# EAGLE library part PC_LED-7-SEGMENTDISPLAY_SC52-11HWA (library Customised arduino)
Display: LED; single 7-segment; 13.2mm; red; 0.9-2.2mcd Check availability <https://pricing.snapeda.com/parts/SC52-11HWA/Kingbright/view-part?ref=eda>
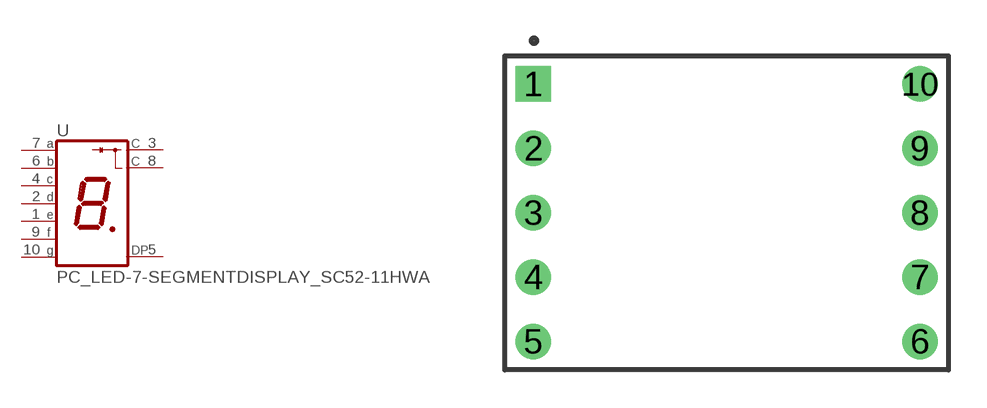
[diagram p2: symbol with the pads of PC_LED-7-SEGMENTDISPLAY_LED_SC52-11HWA; footprint PC_LED-7-SEGMENTDISPLAY_LED_SC52-11HWA]

Designator prefix U

## PC_LED-7-SEGMENTDISPLAY_SC52-11HWA (AVAILABILITY: Not in stock; DESCRIPTION: Display: LED; single 7-segment; 13.2mm; red; 0.9-2.2mcd; MF: Kingbright; MP: SC52-11HWA; PACKAGE: None; PRICE: None)  [PC_LED-7-SEGMENTDISPLAY_LED_SC52-11HWA]
1  E  pas
2  D  pas
3  C  pas
4  C  pas
5  DP  pas
6  B  pas
7  A  pas
8  C  pas
9  F  pas
10  G  pas

## Footprint PC_LED-7-SEGMENTDISPLAY_LED_SC52-11HWA (pad centres in mm)
drill 0.8 pad 1.4 square: 1 -7.62,5.08
drill 0.8 pad 1.4: 2 -7.62,2.54; 3 -7.62,0; 4 -7.62,-2.54; 5 -7.62,-5.08; 6 7.62,-5.08; 7 7.62,-2.54; 8 7.62,0; 9 7.62,2.54; 10 7.62,5.08